# EAGLE library part CP2102 (library CP2102)
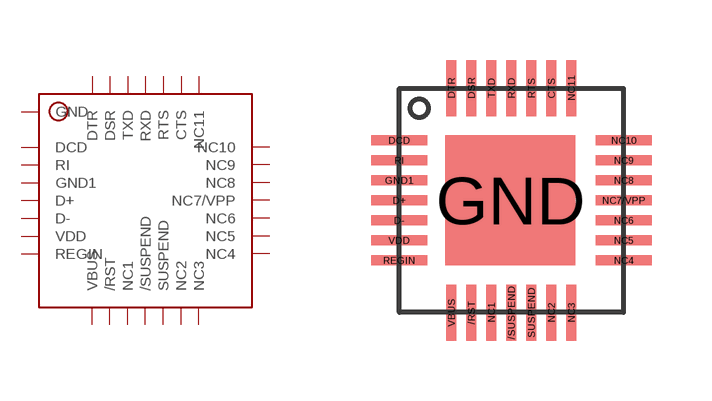
[diagram p0: symbol with the pads of CP2102; footprint CP2102]

Designator prefix -

## CP2102  [CP2102]
/RST  /RST
/SUSPEND  /SUSPEND
CTS  CTS
D+  D+
D-  D-
DCD  DCD
DSR  DSR
DTR  DTR
GND  GND
GND1  GND1
NC1  NC1
NC2  NC2
NC3  NC3
NC4  NC4
NC5  NC5
NC6  NC6
NC7/VPP  NC7/VPP
NC8  NC8
NC9  NC9
NC10  NC10
NC11  NC11
REGIN  REGIN
RI  RI
RTS  RTS
RXD  RXD
SUSPEND  SUSPEND
TXD  TXD
VBUS  VBUS
VDD  VDD

## Footprint CP2102 (pad centres in mm)
smd 0.25 x 1.408: /RST -1,-2.806; /SUSPEND 0,-2.806; CTS 1,2.806; DSR -1,2.806; DTR -1.5,2.806; NC1 -0.5,-2.806; NC2 1,-2.806; NC3 1.5,-2.806; NC11 1.5,2.806; RTS 0.5,2.806; RXD 0,2.806; SUSPEND 0.5,-2.806; TXD -0.5,2.806; VBUS -1.5,-2.806
smd 1.408 x 0.25: D+ -2.806,0; D- -2.806,-0.5; DCD -2.806,1.5; GND1 -2.806,0.5; NC4 2.806,-1.5; NC5 2.806,-1; NC6 2.806,-0.5; NC7/VPP 2.806,0; NC8 2.806,0.5; NC9 2.806,1; NC10 2.806,1.5; REGIN -2.806,-1.5; RI -2.806,1; VDD -2.806,-1
smd 3.25 x 3.25: GND -0.025,0